# Altium schematic symbol library EthernetTransformers.SchLib: 5 symbols
Pins are listed as number, name and electrical type; pins without a type are passive.

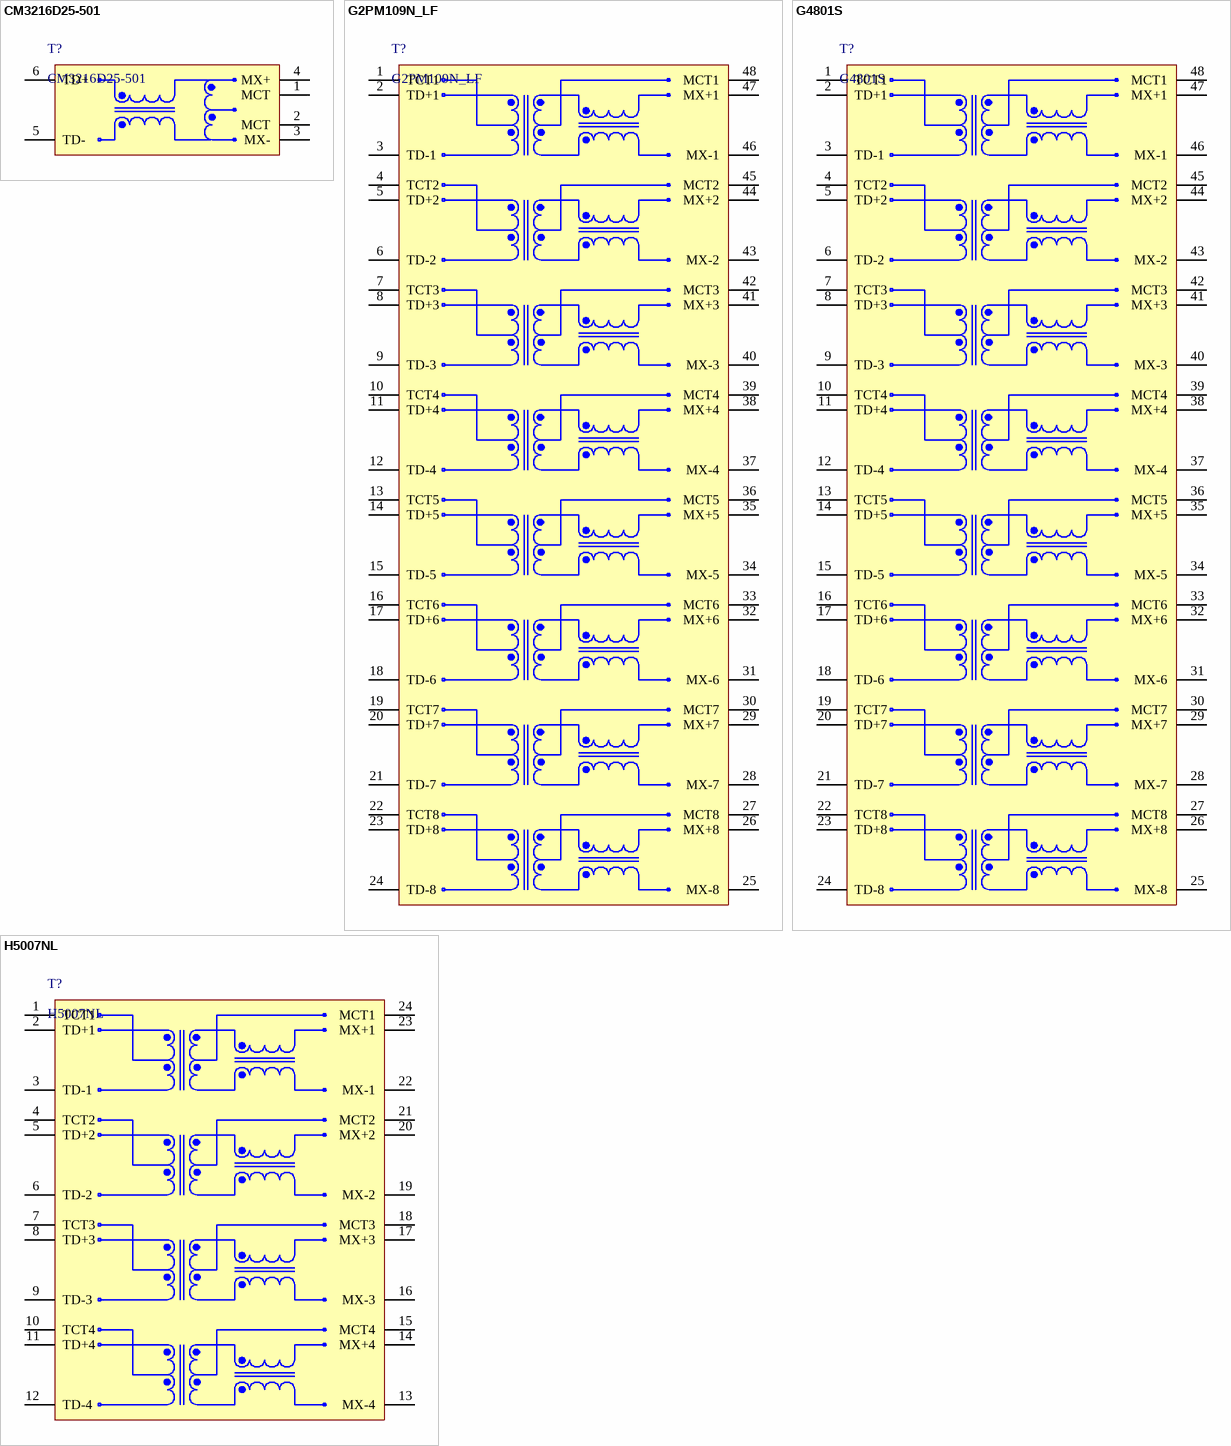
[diagram p0: symbols CM3216D25-501 to H5007NL]

## CM3216D25-501
designator T?
CHIP LAN FILTER, Meets IEEE 802.3 & ANSI X3.263 Standards, Designed For 2.5G BASE - T Applications, Surface Mount Type
footprint CNDTek_CM3216D25-501
pins: 1 MCT, 2 MCT, 3 MX-, 4 MX+, 5 TD-, 6 TD+

## G2PM109N_LF
designator T?
DUAL LAN XFMR 1000M 1:1 350uH SMD; Manufacturer: BOTHHAND; Manufacturer Part Number: G2PM109N-LF; ComponentLink1Description: Datasheet; ComponentLink1URL: https://www.bothhandww.com/wp-content/uploads/2021/07/G2PM109N-LF-RevA9-200423.pdf; ComponentLink2Description: Manufacturer Link; ComponentLink2URL: https://www.bothhandww.com/product/g2pm109n-lf-discrete-lan-magnetics/
footprint BOTHHAND_G2PM109N-LF (1000 BASE-T DUAL PORT MAGNETICS MODULES)
pins: 1 TCT1, 2 TD+1, 3 TD-1, 4 TCT2, 5 TD+2, 6 TD-2, 7 TCT3, 8 TD+3, 9 TD-3, 10 TCT4, 11 TD+4, 12 TD-4, 13 TCT5, 14 TD+5, 15 TD-5, 16 TCT6, 17 TD+6, 18 TD-6, 19 TCT7, 20 TD+7, 21 TD-7, 22 TCT8, 23 TD+8, 24 TD-8, 25 MX-8, 26 MX+8, 27 MCT8, 28 MX-7, 29 MX+7, 30 MCT7, 31 MX-6, 32 MX+6, 33 MCT6, 34 MX-5, 35 MX+5, 36 MCT5, 37 MX-4, 38 MX+4, 39 MCT4, 40 MX-3, 41 MX+3, 42 MCT3, 43 MX-2, 44 MX+2, 45 MCT2, 46 MX-1, 47 MX+1, 48 MCT1

## G4801S
designator T?
DUAL LAN XFMR 1000M 1:1 350uH THT; ComponentLink1Description: New link; ComponentLink1URL: https://www.lcsc.com/product-detail/C408893.html?s_z=n_g480; LCSC: C408893
footprint SOP102P1530X725-48N (SOP, 48-Leads, Body 27,80x12,25mm, Pitch 1,02mm, IPC Medium Density)
pins: 1 TCT1, 2 TD+1, 3 TD-1, 4 TCT2, 5 TD+2, 6 TD-2, 7 TCT3, 8 TD+3, 9 TD-3, 10 TCT4, 11 TD+4, 12 TD-4, 13 TCT5, 14 TD+5, 15 TD-5, 16 TCT6, 17 TD+6, 18 TD-6, 19 TCT7, 20 TD+7, 21 TD-7, 22 TCT8, 23 TD+8, 24 TD-8, 25 MX-8, 26 MX+8, 27 MCT8, 28 MX-7, 29 MX+7, 30 MCT7, 31 MX-6, 32 MX+6, 33 MCT6, 34 MX-5, 35 MX+5, 36 MCT5, 37 MX-4, 38 MX+4, 39 MCT4, 40 MX-3, 41 MX+3, 42 MCT3, 43 MX-2, 44 MX+2, 45 MCT2, 46 MX-1, 47 MX+1, 48 MCT1

## H5007NL
designator T?
1000BASE-T MAGNETICS MODULE Datacom Transformer, 1000 BASE-T; Manufacturer: Pulse Electronics; Insertion Loss (dB): 1dB; Isolation Voltage: 1.5kV; Lead/Base Style: Gull Wing; Number of Circuits: 1; Return Loss: -10dB; Shielding: Unshielded; Turns Ratio: 1:1; Supplier: DigiKey; Supplier Part Number: 553-1334-ND; Manufacturer Part Number: H5007NL; RoHS: Compliant; Category: Transformers; Stock: 5210; Pricing: 1=7,61, 10=6,87, 25=6,5912, 50=6,3866, 100=6,1874, 250=5,93232, 500=5,74544, 1000=5,56379 (USD); Case/Package: Module; China RoHS: Non-Compliant; Depth: 16mm; Height: 5.26mm; Height - Seated (Max): 5.76mm; Lead Free: Lead Free; Length: 17.53mm; Lifecycle Status: Production; Max Operating Temperature: 70°C; Min Operating Temperature: 0°C; Mounting Technology: Surface Mount; Pins: 24; Radiation Hardening: No; REACH SVHC: No; Schedule B: 8504312000, 8504312000|8504312000, 8504312000|8504312000|8504312000, 8504312000|8504312000|8504312000|8504312000; Termination: SMD/SMT; Weight: 1.59999g; Width: 12.2mm; ComponentLink1URL: https://datasheet.octopart.com:443/H5007NL-Pulse-datasheet-156076348.pdf?src-supplier=TME; ComponentLink1Description: https://datasheet.octopart.com:443/H5007NL-Pulse-datasheet-156076348.pdf?src-supplier=TME; ComponentLink2URL: https://datasheet.octopart.com:443/H5007NL-Pulse-datasheet-128027.pdf?src-supplier=TME; ComponentLink2Description: https://datasheet.octopart.com:443/H5007NL-Pulse-datasheet-128027.pdf?src-supplier=TME; ComponentLink3URL: https://datasheet.octopart.com:443/H5007NL-Pulse-datasheet-128558231.pdf?src-supplier=Upverter; ComponentLink3Description: https://datasheet.octopart.com:443/H5007NL-Pulse-datasheet-128558231.pdf?src-supplier=Upverter; ComponentLink4URL: https://datasheet.octopart.com:443/H5007NL-Pulse-datasheet-181144945.pdf?src-supplier=IHS; ComponentLink4Description: https://datasheet.octopart.com:443/H5007NL-Pulse-datasheet-181144945.pdf?src-supplier=IHS; ComponentLink5URL: https://datasheet.octopart.com:443/H5007NL-Pulse-datasheet-137249608.pdf?src-supplier=ODG+(Origin+Data+Global); ComponentLink5Description: https://datasheet.octopart.com:443/H5007NL-Pulse-datasheet-137249608.pdf?src-supplier=ODG+(Origin+Data+Global); ComponentLink6URL: https://datasheet.octopart.com:443/H5007NL-Pulse-datasheet-11641025.pdf?src-supplier=Sager+Electronics; ComponentLink6Description: https://datasheet.octopart.com:443/H5007NL-Pulse-datasheet-11641025.pdf?src-supplier=Sager+Electronics; ComponentLink7URL: https://datasheet.octopart.com:443/H5007NL-Pulse-datasheet-8369510.pdf?src-supplier=Factory+Futures; ComponentLink7Description: https://datasheet.octopart.com:443/H5007NL-Pulse-datasheet-8369510.pdf?src-supplier=Factory+Futures; ComponentLink8URL: https://datasheet.octopart.com:443/H5007NL-Pulse-datasheet-5314646.pdf?src-supplier=Master+Electronics; ComponentLink8Description: https://datasheet.octopart.com:443/H5007NL-Pulse-datasheet-5314646.pdf?src-supplier=Master+Electronics; ComponentLink9URL: https://datasheet.octopart.com:443/H5007NL-Pulse-datasheet-14185034.pdf?src-supplier=iiiC; ComponentLink9Description: https://datasheet.octopart.com:443/H5007NL-Pulse-datasheet-14185034.pdf?src-supplier=iiiC
footprint SOP127P1600X572-24N (SOP, 24-Leads, Body 17,53x12,20mm, Pitch 1,27mm, IPC Medium Density)
pins: 1 TCT1, 2 TD+1, 3 TD-1, 4 TCT2, 5 TD+2, 6 TD-2, 7 TCT3, 8 TD+3, 9 TD-3, 10 TCT4, 11 TD+4, 12 TD-4, 13 MX-4, 14 MX+4, 15 MCT4, 16 MX-3, 17 MX+3, 18 MCT3, 19 MX-2, 20 MX+2, 21 MCT2, 22 MX-1, 23 MX+1, 24 MCT1

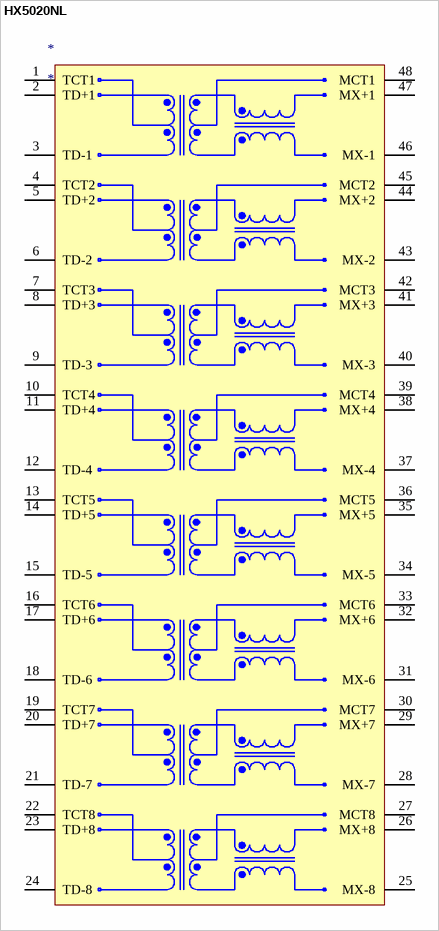
[diagram p1: symbol HX5020NL]

## HX5020NL
designator *
Telecom Transformer 1: 1 0.65Ohm Prim. DCR 0.65Ohm Sec. DCR 50 Terminal Gull Wing SMD; Manufacturer: Pulse Electronics; Manufacturer Part Number: HX5020NL; Approvals: UL; Insertion Loss (dB): 1.2dB; Isolation Voltage: 1.5kV; Nominal Supply Voltage: 57V; Number of Circuits: 4; Return Loss: -18dB; Shielding: Unshielded; Turns Ratio: 1:1; Supplier: DigiKey; Supplier Part Number: 553-1432-5-ND; RoHS: Compliant; Category: Transformers; Stock: 1230; Pricing: 1=16,45, 15=14,55, 30=14,09433, 60=13,651, 105=13,3021, 255=12,76518, 510=12,35933 (USD); Case/Package: Module; China RoHS: Compliant; Depth: 10.92mm; Height: 8.33mm; Height - Seated (Max): 8.66mm; Lead/Base Style: Gull Wing; Lead Free: Lead Free; Length: 27.94mm; Lifecycle Status: Production; Max Operating Temperature: 85°C; Min Operating Temperature: -40°C; Mounting Technology: Surface Mount; Pins: 50; Radiation Hardening: No; REACH SVHC: Yes; Termination: SMD/SMT; Weight: 1.59999g; Width: 7.54mm; ComponentLink1URL: https://datasheet.octopart.com:443/HX5020NL-Pulse-datasheet-137330002.pdf?src-supplier=IHS; ComponentLink1Description: https://datasheet.octopart.com:443/HX5020NL-Pulse-datasheet-137330002.pdf?src-supplier=IHS; ComponentLink2URL: https://datasheet.octopart.com:443/HX5020NL-Pulse-datasheet-134532592.pdf?src-supplier=Master+Electronics; ComponentLink2Description: https://datasheet.octopart.com:443/HX5020NL-Pulse-datasheet-134532592.pdf?src-supplier=Master+Electronics; ComponentLink3URL: https://datasheet.octopart.com:443/HX5020NL-Pulse-datasheet-8369510.pdf?src-supplier=Factory+Futures; ComponentLink3Description: https://datasheet.octopart.com:443/HX5020NL-Pulse-datasheet-8369510.pdf?src-supplier=Factory+Futures; ComponentLink4URL: https://datasheet.octopart.com:443/HX5020NL-Pulse-datasheet-5314646.pdf?src-supplier=Factory+Futures; ComponentLink4Description: https://datasheet.octopart.com:443/HX5020NL-Pulse-datasheet-5314646.pdf?src-supplier=Factory+Futures; ComponentLink5URL: https://datasheet.octopart.com:443/HX5020NL-Pulse-datasheet-11641025.pdf?src-supplier=_legacy+Avnet; ComponentLink5Description: https://datasheet.octopart.com:443/HX5020NL-Pulse-datasheet-11641025.pdf?src-supplier=_legacy+Avnet; ComponentLink6URL: https://datasheet.octopart.com:443/HX5020NL-Pulse-datasheet-14185034.pdf?src-supplier=iiiC; ComponentLink6Description: https://datasheet.octopart.com:443/HX5020NL-Pulse-datasheet-14185034.pdf?src-supplier=iiiC
pins: 1 TCT1, 2 TD+1, 3 TD-1, 4 TCT2, 5 TD+2, 6 TD-2, 7 TCT3, 8 TD+3, 9 TD-3, 10 TCT4, 11 TD+4, 12 TD-4, 13 TCT5, 14 TD+5, 15 TD-5, 16 TCT6, 17 TD+6, 18 TD-6, 19 TCT7, 20 TD+7, 21 TD-7, 22 TCT8, 23 TD+8, 24 TD-8, 25 MX-8, 26 MX+8, 27 MCT8, 28 MX-7, 29 MX+7, 30 MCT7, 31 MX-6, 32 MX+6, 33 MCT6, 34 MX-5, 35 MX+5, 36 MCT5, 37 MX-4, 38 MX+4, 39 MCT4, 40 MX-3, 41 MX+3, 42 MCT3, 43 MX-2, 44 MX+2, 45 MCT2, 46 MX-1, 47 MX+1, 48 MCT1